# EAGLE library part *555 (library BottleSumo Library)
TIMER 555 General purpose precision timers NE555 : Texas Datasheet <http://www.ti.com/general/docs/suppproductinfo.tsp?distId=10&gotoUrl=http%3A%2F%2Fwww.ti.com%2Flit%2Fgpn%2Fne555>, Diodes Incorporated Datasheet <https://www.diodes.com/assets/Datasheets/NE555_SA555_NA555.pdf> LM555 Datasheet <http://www.ti.com/general/docs/suppproductinfo.tsp?distId=10&gotoUrl=http%3A%2F%2Fwww.ti.com%2Flit%2Fgpn%2Flm555> LMC555 Datasheet <http://www.ti.com/general/docs/suppproductinfo.tsp?distId=10&gotoUrl=http%3A%2F%2Fwww.ti.com%2Flit%2Fgpn%2Flmc555> ICM7555 : Maxim Integrated Datasheet <https://datasheets.maximintegrated.com/en/ds/ICM7555-ICM7556.pdf>, Renesas Electronics America Inc Datasheet <https://www.renesas.com/en-us/www/doc/datasheet/icm7555-56.pdf>
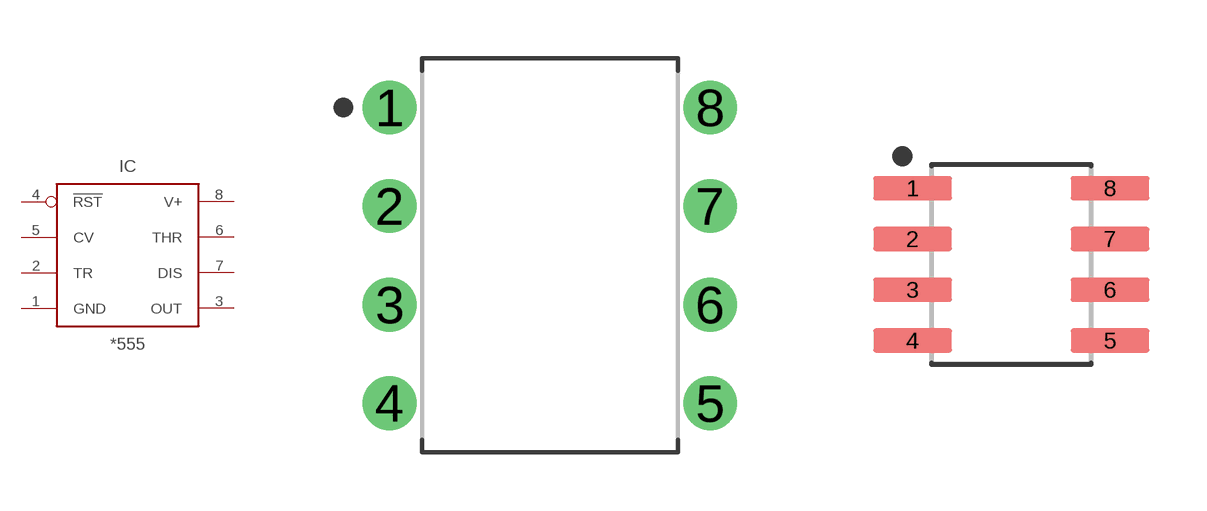
[diagram p0: symbol with the pads of DIP826W53P254L959H508Q8B; footprints DIP826W53P254L959H508Q8B, SOIC127P599X175-8N]

Designator prefix IC

## ICM7555_DIP (CATEGORY: IC_Clock-Timing; CURRENT-SUPPLY: 60µA; DESCRIPTION: IC OSC SINGLE TIMER 1MHZ 8DIP; FREQUENCY: 1MHz; MANUFACTURER: Renesas Electronics America Inc; MPN: ICM7555IPAZ; OPERATING_TEMP: -25°C to 85°C; PART_STATUS: Active; ROHS_COMPLIANT: ROHS3 Compliant; SUB-CATEGORY: Timer), LM555_DIP (CATEGORY: IC_Clock-Timing; CURRENT-SUPPLY: 10mA; DESCRIPTION: IC OSC SINGLE TIMER 100KHZ 8-DIP; FREQUENCY: 100kHz; MANUFACTURER: Texas Instruments; MPN: LM555CN/NOPB; OPERATING_TEMP: 0°C to 70°C; PART_STATUS: Active; ROHS_COMPLIANT: ROHS3 Compliant; SUB-CATEGORY: Timer), LMC555_DIP (CATEGORY: IC_Clock-Timing; CURRENT-SUPPLY: 150µA; DESCRIPTION: IC OSC SINGLE TIMER 3MHZ 8-DIP; FREQUENCY: 3MHz; MANUFACTURER: Texas Instruments; MPN: LMC555CN/NOPB; OPERATING_TEMP: -40°C to 85°C; PART_STATUS: Active; ROHS_COMPLIANT: ROHS3 Compliant; SUB-CATEGORY: Timer), NE555_DIP (CATEGORY: IC_Clock-Timing; CURRENT-SUPPLY: 10mA; DESCRIPTION: IC OSC SINGLE TIMER 100KHZ 8-DIP; FREQUENCY: 100kHz; MANUFACTURER: Texas Instruments; MPN: NE555P; OPERATING_TEMP: 0°C to 70°C; PART_STATUS: Active; ROHS_COMPLIANT: ROHS3 Compliant; SUB-CATEGORY: Timer)  [DIP826W53P254L959H508Q8B]
1  GND
2  TR  in
3  OUT  out
4  !RST  in
5  CV  in
6  THR  in
7  DIS  in
8  V+

## LM555_SOIC (CATEGORY: IC_Clock-Timing; CURRENT-SUPPLY: 10mA; DESCRIPTION: IC OSC SGL TIMER 100KHZ 8-SOIC; FREQUENCY: 100kHz; MANUFACTURER: Texas Instruments; MPN: LM555CM/NOPB; OPERATING_TEMP: 0°C to 70°C; PART_STATUS: Active; ROHS_COMPLIANT: ROHS3 Compliant; SUB-CATEGORY: Timer), LMC555_SOIC (CATEGORY: IC_Clock-Timing; CURRENT-SUPPLY: 150µA; DESCRIPTION: IC OSC SINGLE TIMER 3MHZ 8-SOIC; FREQUENCY: 3MHz; MANUFACTURER: Texas Instruments; MPN: LMC555CM/NOPB; OPERATING_TEMP: -40°C to 85°C; PART_STATUS: Active; ROHS_COMPLIANT: ROHS3 Compliant; SUB-CATEGORY: Timer), NE555_SOIC (CATEGORY: IC_Clock-Timing; CURRENT-SUPPLY: 10mA; DESCRIPTION: IC OSC SGL TIMER 100KHZ 8-SOIC; FREQUENCY: 100kHz; MANUFACTURER: Texas Instruments; MPN: NE555D; OPERATING_TEMP: 0°C to 70°C; PART_STATUS: Active; ROHS_COMPLIANT: ROHS3 Compliant; SUB-CATEGORY: Timer)  [SOIC127P599X175-8N]
Pads as for DIP826W53P254L959H508Q8B

## NE555_SOICW (CATEGORY: IC_Clock-Timing; CURRENT-SUPPLY: 10mA; DESCRIPTION: IC OSC TIMER SINGLE 100KHZ 8SO; FREQUENCY: 100kHz; MANUFACTURER: Texas Instruments; MPN: NE555PS; OPERATING_TEMP: 0°C to 70°C; PART_STATUS: Active; ROHS_COMPLIANT: ROHS3 Compliant; SUB-CATEGORY: Timer)  [SOIC127P780X200-8N]
Pads as for DIP826W53P254L959H508Q8B

## LM555_VSSOP (CATEGORY: IC_Clock-Timing; CURRENT-SUPPLY: 10mA; DESCRIPTION: IC OSC SGL TIMER 100KHZ 8VSSOP; FREQUENCY: 100kHz; MANUFACTURER: Texas Instruments; MPN: LM555CMM/NOPB; OPERATING_TEMP: 0°C to 70°C; PART_STATUS: Active; ROHS_COMPLIANT: ROHS3 Compliant; SUB-CATEGORY: Timer), LMC555_VSSOP (CATEGORY: IC_Clock-Timing; CURRENT-SUPPLY: 150µA; DESCRIPTION: IC OSC SINGLE TIMER 3MHZ 8VSSOP; FREQUENCY: 3MHz; MANUFACTURER: Texas Instruments; MPN: LMC555CMM; OPERATING_TEMP: -40°C to 85°C; PART_STATUS: Active; ROHS_COMPLIANT: ROHS3 Compliant; SUB-CATEGORY: Timer)  [SOP65P490X110-8N]
Pads as for DIP826W53P254L959H508Q8B

## NE555_TSSOP8 (CATEGORY: IC_Clock-Timing; CURRENT-SUPPLY: 10mA; DESCRIPTION: IC OSC SGL TIMER 100KHZ 8TSSOP; FREQUENCY: 100kHz; MANUFACTURER: Texas Instruments; MPN: NE555PW; OPERATING_TEMP: 0°C to 70°C; PART_STATUS: Active; ROHS_COMPLIANT: ROHS3 Compliant; SUB-CATEGORY: Timer)  [SOP65P640X120-8]
Pads as for DIP826W53P254L959H508Q8B

## Footprint DIP826W53P254L959H508Q8B (pad centres in mm)
8-DIP, 2.54 mm (0.10 in) pitch, 8.26 mm (0.33 in) span, 9.59 X 6.35 X 5.08 mm body 8-pin DIP package with 2.54 mm (0.10 in) pitch, 8.26 mm (0.33 in) span with body size 9.59 X 6.35 X 5.08 mm
drill 0.786 pad 1.386: 1 -4.13,3.81; 2 -4.13,1.27; 3 -4.13,-1.27; 4 -4.13,-3.81; 5 4.13,-3.81; 6 4.13,-1.27; 7 4.13,1.27; 8 4.13,3.81

## Footprint SOIC127P599X175-8N (pad centres in mm)
8-SOIC, 1.27 mm pitch, 6.00 mm span, 4.91 X 3.90 X 1.75 mm body 8-pin SOIC package with 1.27 mm pitch, 6.00 mm span with body size 4.91 X 3.90 X 1.75 mm
smd 1.965 x 0.602: 1 -2.47,1.905; 2 -2.47,0.635; 3 -2.47,-0.635; 4 -2.47,-1.905; 5 2.47,-1.905; 6 2.47,-0.635; 7 2.47,0.635; 8 2.47,1.905

## Footprint SOIC127P780X200-8N (pad centres in mm)
8-SOIC, 1.27 mm pitch, 7.80 mm span, 6.20 X 5.30 X 2.00 mm body 8-pin SOIC package with 1.27 mm pitch, 7.80 mm span with body size 6.20 X 5.30 X 2.00 mm
smd 1.702 x 0.605: 1 -3.603,1.905; 2 -3.603,0.635; 3 -3.603,-0.635; 4 -3.603,-1.905; 5 3.603,-1.905; 6 3.603,-0.635; 7 3.603,0.635; 8 3.603,1.905

## Footprint SOP65P490X110-8N (pad centres in mm)
8-SOP, 0.65 mm pitch, 4.90 mm span, 3.00 X 3.00 X 1.10 mm body 8-pin SOP package with 0.65 mm pitch, 4.90 mm span with body size 3.00 X 3.00 X 1.10 mm
smd 1.471 x 0.481: 1 -2.15,0.975; 2 -2.15,0.325; 3 -2.15,-0.325; 4 -2.15,-0.975; 5 2.15,-0.975; 6 2.15,-0.325; 7 2.15,0.325; 8 2.15,0.975

## Footprint SOP65P640X120-8 (pad centres in mm)
8-SOP, 0.65 mm pitch, 6.40 mm span, 3.00 X 4.40 X 1.20 mm body 8-pin SOP package with 0.65 mm pitch, 6.40 mm span with body size 3.00 X 4.40 X 1.20 mm
smd 1.469 x 0.402: 1 -2.871,0.975; 2 -2.871,0.325; 3 -2.871,-0.325; 4 -2.871,-0.975; 5 2.871,-0.975; 6 2.871,-0.325; 7 2.871,0.325; 8 2.871,0.975